# Altium integrated library Dallas Peripheral Memory Controller.IntLib: 58 symbols (part 2 of 2)
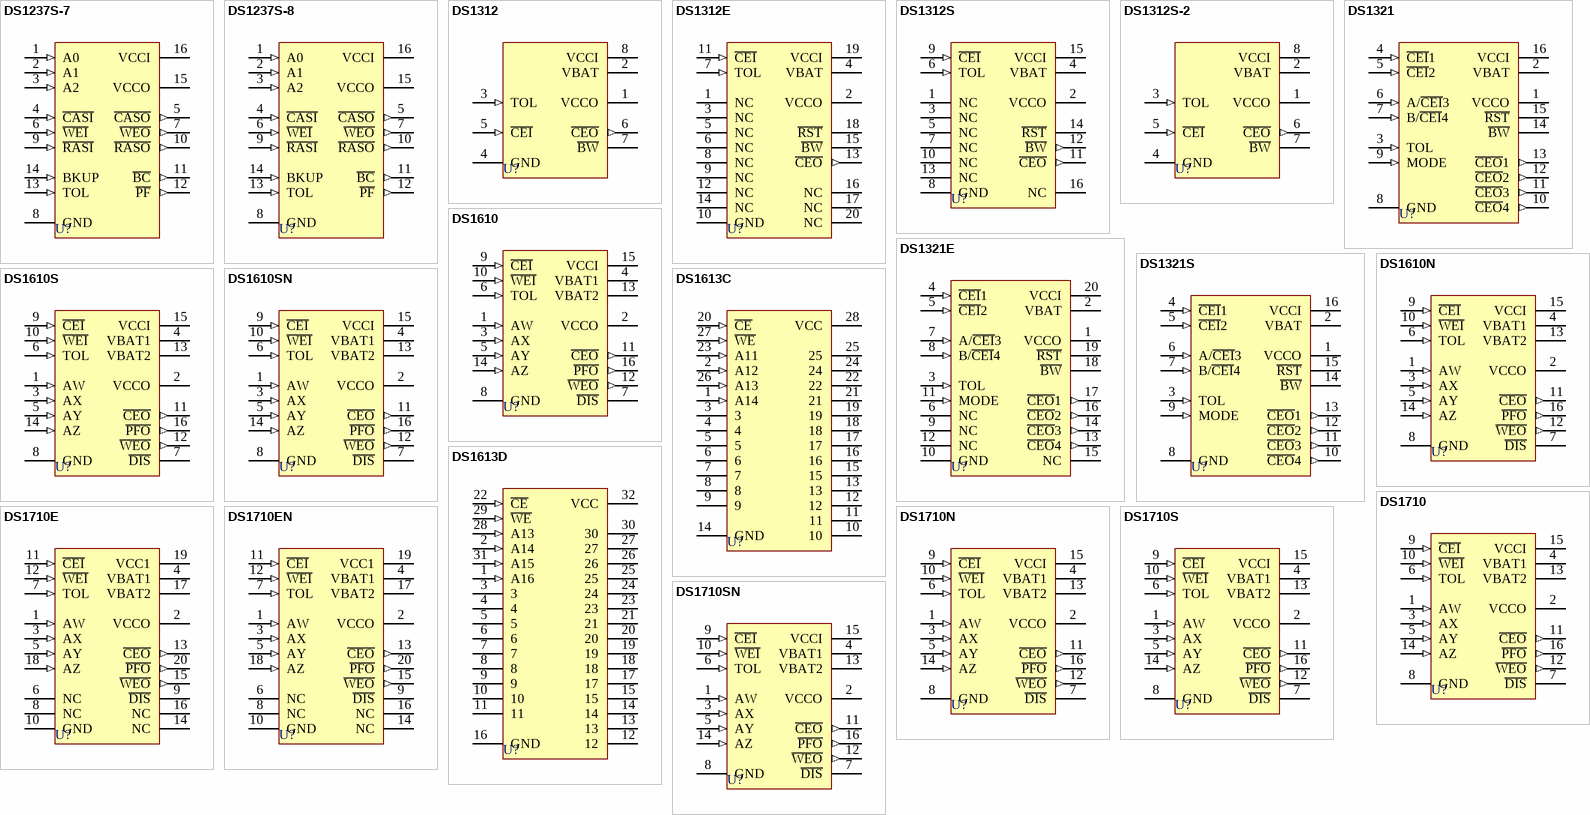
[diagram p2: symbols DS1237S-7 to DS1710SN]

## DS1710SN
designator U?
Partitioned Nonvolatile Controller; PackageDocument: 1994; Published: 13-Oct-2000; LatestRevisionDate: 06-Jun-2005; LatestRevisionNote: Stylized 3D Model Added.; DatasheetDocument: 15-Apr-1998; PackageReference: SOIC16WA; Publisher: Altium Limited; ComponentLink1Description: Manufacturer Link; ComponentLink1URL: http://www.maxim-ic.com/; ComponentLink2Description: Datasheet; ComponentLink2URL: http://pdfserv.maxim-ic.com/en/ds/DS1710.pdf
footprint SOIC16WA (Small Outline; 16 Leads; Body Width 7.5 mm; Pitch 1.27 mm)
3D model SOIC16WA (Small Outline; 16 Leads; Body Width 7.5 mm; Pitch 1.27 mm)
pins: 1 AW (in), 2 VCCO (power), 3 AX (in), 4 VBAT1 (power), 5 AY (in), 6 TOL (in), 7 ~{DIS}, 8 GND (power), 9 ~{CEI} (in), 10 ~{WEI} (in), 11 ~{CEO} (out), 12 ~{WEO} (out), 13 VBAT2 (power), 14 AZ (in), 15 VCCI (power), 16 ~{PFO} (out)